# Altium schematic symbol library SchematicLibrary1.SchLib: 4 symbols
Pins are listed as number, name and electrical type; pins without a type are passive.

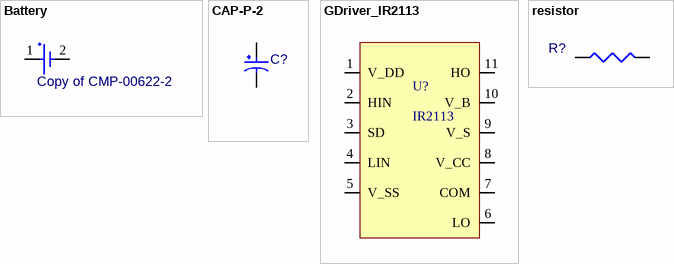
[diagram p0: symbols Battery to resistor]

## Battery
designator ?, comment Copy of CMP-00622-2
Battery
footprint SEIK-MS621FE-FL11E-2_V (SMD, 2-Leads, Diameter 6.8mm)
pins: 1 +, 2 -

## CAP-P-2
designator C?, comment ECA-2AM220  (value not drawn)
Aluminum Electrolytic Capacitor, 22 uF, +/- 20%, 100 V, -40 to 85 degC, 2-Pin THD, RoHS, Bulk; Manufacturer: Panasonic; Voltage Rating: 100V; Ripple Current: 115mA; Value: 22µF; Manufacturer URL: http://www.panasonic.com/; Packaging: Bulk; Package Description: 2-Pin Radial Lead, Dia 6.3 mm, Height 12.2 mm; Datasheet URL: https://industrial.panasonic.com/cdbs/www-data/pdf/RDF0000/ABA0000C1047.pdf; RoHS Compliant: True; Package Quantity: 200; Case/Package: Radial; Package Reference: CAPPR55-250-1120X630X1220; Datasheet Version: Mar-16; Pins: 2; Tolerance: 20%; Diameter: 6.3mm; Max Operating Temperature: 85°C; Ripple Current (AC): 115mA; Capacitor Type: Electrolytic; Mounting Technology: TH; Min Operating Temperature: -40°C; Lead Pitch: 2.5mm
footprint CAPPR55-250-1120X630X1220 (THD, 2-Leads, Dia 6.3mm, Pin Spacing 2.5mm)
pins: 1, 2

## GDriver_IR2113
designator U?, comment IR2113
High and low side gate driver.
pins: 1 V_DD, 2 HIN, 3 SD, 4 LIN, 5 V_SS, 6 LO, 7 COM, 8 V_CC, 9 V_S, 10 V_B, 11 HO

## resistor
designator R?
200R 0.063W 5% 0402 (1005 Metric)  SMD; Value: 200.00 Ohm; Case-EIA: 0402; Case-Metric: 1005; Technology: SMT; Power: 0.063 W; Tolerance: 5 %
footprint RESC0402(1005)_L (Chip Resistor, Body 1.0x0.5mm, IPC High Density)
pins: 1, 2
1 alternate drawing of the same symbol